# EAGLE library part MICROBUILDER_ATSAMD51J (library Adafruit Feather M4 Express)
ATSAMD51J cortex m4 microcontroller
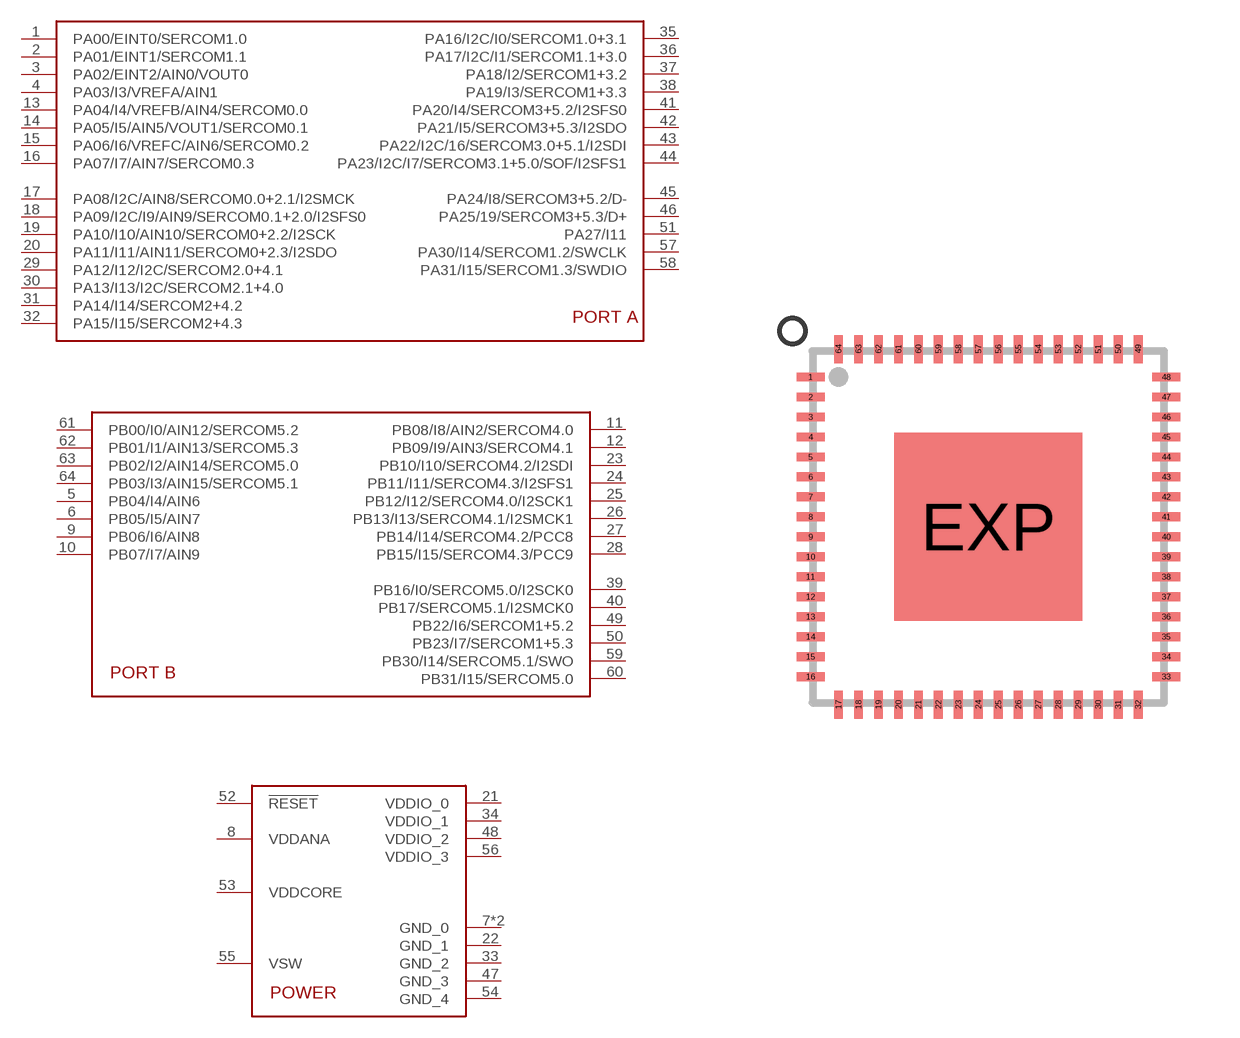
[diagram p0: symbol with the pads of MICROBUILDER_PQFN64-1; footprint MICROBUILDER_PQFN64-1]

Designator prefix -; gates G$1=MICROBUILDER_ATSAMD51J_PORTA G$2=MICROBUILDER_ATSAMD51J_PORTB G$3=MICROBUILDER_ATSAMD51J_PWR

## MICROBUILDER_ATSAMD51J  [MICROBUILDER_PQFN64-1]
1  G$1:PA00/EINT0/SERCOM1.0
2  G$1:PA01/EINT1/SERCOM1.1
3  G$1:PA02/EINT2/AIN0/VOUT0
4  G$1:PA03/I3/VREFA/AIN1
5  G$2:PB04/I4/AIN6
6  G$2:PB05/I5/AIN7
7  G$3:GND_0
8  G$3:VDDANA
9  G$2:PB06/I6/AIN8
10  G$2:PB07/I7/AIN9
11  G$2:PB08/I8/AIN2/SERCOM4.0
12  G$2:PB09/I9/AIN3/SERCOM4.1
13  G$1:PA04/I4/VREFB/AIN4/SERCOM0.0
14  G$1:PA05/I5/AIN5/VOUT1/SERCOM0.1
15  G$1:PA06/I6/VREFC/AIN6/SERCOM0.2
16  G$1:PA07/I7/AIN7/SERCOM0.3
17  G$1:PA08/I2C/AIN8/SERCOM0.0+2.1/I2SMCK
18  G$1:PA09/I2C/I9/AIN9/SERCOM0.1+2.0/I2SFS0
19  G$1:PA10/I10/AIN10/SERCOM0+2.2/I2SCK
20  G$1:PA11/I11/AIN11/SERCOM0+2.3/I2SDO
21  G$3:VDDIO_0
22  G$3:GND_1
23  G$2:PB10/I10/SERCOM4.2/I2SDI
24  G$2:PB11/I11/SERCOM4.3/I2SFS1
25  G$2:PB12/I12/SERCOM4.0/I2SCK1
26  G$2:PB13/I13/SERCOM4.1/I2SMCK1
27  G$2:PB14/I14/SERCOM4.2/PCC8
28  G$2:PB15/I15/SERCOM4.3/PCC9
29  G$1:PA12/I12/I2C/SERCOM2.0+4.1
30  G$1:PA13/I13/I2C/SERCOM2.1+4.0
31  G$1:PA14/I14/SERCOM2+4.2
32  G$1:PA15/I15/SERCOM2+4.3
33  G$3:GND_2
34  G$3:VDDIO_1
35  G$1:PA16/I2C/I0/SERCOM1.0+3.1
36  G$1:PA17/I2C/I1/SERCOM1.1+3.0
37  G$1:PA18/I2/SERCOM1+3.2
38  G$1:PA19/I3/SERCOM1+3.3
39  G$2:PB16/I0/SERCOM5.0/I2SCK0
40  G$2:PB17/SERCOM5.1/I2SMCK0
41  G$1:PA20/I4/SERCOM3+5.2/I2SFS0
42  G$1:PA21/I5/SERCOM3+5.3/I2SDO
43  G$1:PA22/I2C/16/SERCOM3.0+5.1/I2SDI
44  G$1:PA23/I2C/I7/SERCOM3.1+5.0/SOF/I2SFS1
45  G$1:PA24/I8/SERCOM3+5.2/D-
46  G$1:PA25/19/SERCOM3+5.3/D+
47  G$3:GND_3
48  G$3:VDDIO_2
49  G$2:PB22/I6/SERCOM1+5.2
50  G$2:PB23/I7/SERCOM1+5.3
51  G$1:PA27/I11
52  G$3:!RESET
53  G$3:VDDCORE
54  G$3:GND_4
55  G$3:VSW
56  G$3:VDDIO_3
57  G$1:PA30/I14/SERCOM1.2/SWCLK
58  G$1:PA31/I15/SERCOM1.3/SWDIO
59  G$2:PB30/I14/SERCOM5.1/SWO
60  G$2:PB31/I15/SERCOM5.0
61  G$2:PB00/I0/AIN12/SERCOM5.2
62  G$2:PB01/I1/AIN13/SERCOM5.3
63  G$2:PB02/I2/AIN14/SERCOM5.0
64  G$2:PB03/I3/AIN15/SERCOM5.1
EXP  G$3:GND_0

## Footprint MICROBUILDER_PQFN64-1 (pad centres in mm)
Plastic Quad Flat Non-leaded package 64 pins, 9 × 9 × 0.85 mm³, 0.5 mm pitch Source: https://www.micronas.com .. mas35x9f_3ds.pdf
smd 0.7 x 0.22: 1 -4.45,3.75; 2 -4.45,3.25; 3 -4.45,2.75; 4 -4.45,2.25; 5 -4.45,1.75; 6 -4.45,1.25; 7 -4.45,0.75; 8 -4.45,0.25; 9 -4.45,-0.25; 10 -4.45,-0.75; 11 -4.45,-1.25; 12 -4.45,-1.75; 13 -4.45,-2.25; 14 -4.45,-2.75; 15 -4.45,-3.25; 16 -4.45,-3.75; 33 4.45,-3.75; 34 4.45,-3.25; 35 4.45,-2.75; 36 4.45,-2.25; 37 4.45,-1.75; 38 4.45,-1.25; 39 4.45,-0.75; 40 4.45,-0.25; 41 4.45,0.25; 42 4.45,0.75; 43 4.45,1.25; 44 4.45,1.75; 45 4.45,2.25; 46 4.45,2.75; 47 4.45,3.25; 48 4.45,3.75
smd 0.22 x 0.7: 17 -3.75,-4.45; 18 -3.25,-4.45; 19 -2.75,-4.45; 20 -2.25,-4.45; 21 -1.75,-4.45; 22 -1.25,-4.45; 23 -0.75,-4.45; 24 -0.25,-4.45; 25 0.25,-4.45; 26 0.75,-4.45; 27 1.25,-4.45; 28 1.75,-4.45; 29 2.25,-4.45; 30 2.75,-4.45; 31 3.25,-4.45; 32 3.75,-4.45; 49 3.75,4.45; 50 3.25,4.45; 51 2.75,4.45; 52 2.25,4.45; 53 1.75,4.45; 54 1.25,4.45; 55 0.75,4.45; 56 0.25,4.45; 57 -0.25,4.45; 58 -0.75,4.45; 59 -1.25,4.45; 60 -1.75,4.45; 61 -2.25,4.45; 62 -2.75,4.45; 63 -3.25,4.45; 64 -3.75,4.45
smd 4.7 x 4.7: EXP 0,0